# EAGLE library part 1273ПВ13Т (library adc)
АЕЯР.431320.874 ТУ 1273ПВ13Т - 8-разрядный АЦП, частотой преобразования 500Msps с LVDS-шиной. Производитель: "СКТБ ЭС", г. Воронеж. Технические условия: АЕЯР.431320.874 ТУ
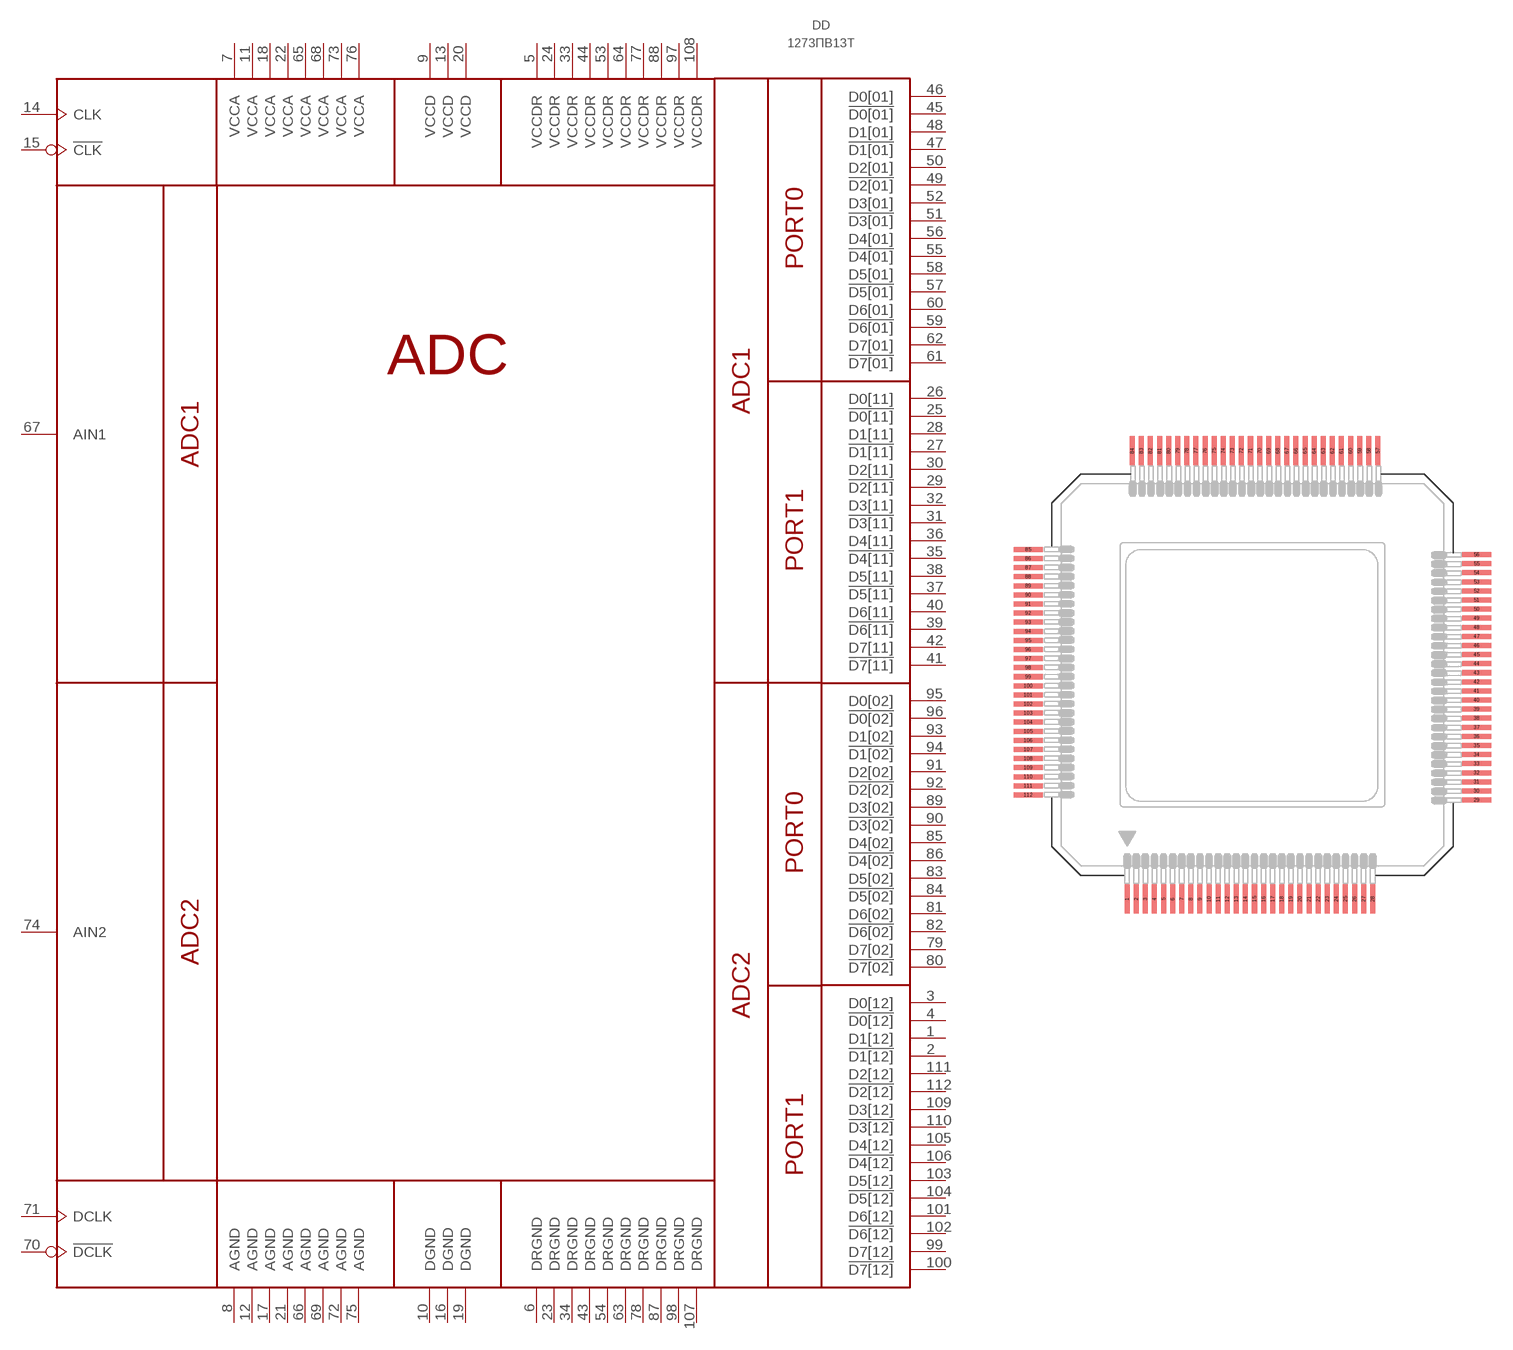
[diagram p0: symbol with the pads of 4233.112-А; footprint 4233.112-А]

Designator prefix DD

## 1273ПВ13Т  [4233.112-А]
1  D1[12]  out
2  !D1[12]  out
3  D0[12]  out
4  !D0[12]  out
5  VCCDR  pwr
6  DRGND  pwr
7  VCCA  pwr
8  AGND  pwr
9  VCCD  pwr
10  DGND  pwr
11  VCCA  pwr
12  AGND  pwr
13  VCCD  pwr
14  CLK  in
15  !CLK  in
16  DGND  pwr
17  AGND  pwr
18  VCCA  pwr
19  DGND  pwr
20  VCCD  pwr
21  AGND  pwr
22  VCCA  pwr
23  DRGND  pwr
24  VCCDR  pwr
25  !D0[11]  out
26  D0[11]  out
27  !D1[11]  out
28  D1[11]  out
29  !D2[11]  out
30  D2[11]  out
31  !D3[11]  out
32  D3[11]  out
33  VCCDR  pwr
34  DRGND  pwr
35  !D4[11]  out
36  D4[11]  out
37  !D5[11]  out
38  D5[11]  out
39  !D6[11]  out
40  D6[11]  out
41  !D7[11]  out
42  D7[11]  out
43  DRGND  pwr
44  VCCDR  pwr
45  !D0[01]  out
46  D0[01]  out
47  !D1[01]  out
48  D1[01]  out
49  !D2[01]  out
50  D2[01]  out
51  !D3[01]  out
52  D3[01]  out
53  VCCDR  pwr
54  DRGND  pwr
55  !D4[01]  out
56  D4[01]  out
57  !D5[01]  out
58  D5[01]  out
59  !D6[01]  out
60  D6[01]  out
61  !D7[01]  out
62  D7[01]  out
63  DRGND  pwr
64  VCCDR  pwr
65  VCCA  pwr
66  AGND  pwr
67  AIN1  in
68  VCCA  pwr
69  AGND  pwr
70  !DCLK  in
71  DCLK  in
72  AGND  pwr
73  VCCA  pwr
74  AIN2  in
75  AGND  pwr
76  VCCA  pwr
77  VCCDR  pwr
78  DRGND  pwr
79  D7[02]  out
80  !D7[02]  out
81  D6[02]  out
82  !D6[02]  out
83  D5[02]  out
84  !D5[02]  out
85  D4[02]  out
86  !D4[02]  out
87  DRGND  pwr
88  VCCDR  pwr
89  D3[02]  out
90  !D3[02]  out
91  D2[02]  out
92  !D2[02]  out
93  D1[02]  out
94  !D1[02]  out
95  D0[02]  out
96  !D0[02]  out
97  VCCDR  pwr
98  DRGND  pwr
99  D7[12]  out
100  !D7[12]  out
101  D6[12]  out
102  !D6[12]  out
103  D5[12]  out
104  !D5[12]  out
105  D4[12]  out
106  !D4[12]  out
107  DRGND  pwr
108  VCCDR  pwr
109  D3[12]  out
110  !D3[12]  out
111  D2[12]  out
112  !D2[12]  out

## Footprint 4233.112-А (pad centres in mm)
smd 0.35 x 2: 1 -8.75,-15.652; 2 -8.115,-15.652; 3 -7.48,-15.652; 4 -6.845,-15.652; 5 -6.21,-15.652; 6 -5.575,-15.652; 7 -4.94,-15.652; 8 -4.305,-15.652; 9 -3.67,-15.652; 10 -3.035,-15.652; 11 -2.4,-15.652; 12 -1.765,-15.652; 13 -1.13,-15.652; 14 -0.495,-15.652; 15 0.14,-15.652; 16 0.775,-15.652; 17 1.41,-15.652; 18 2.045,-15.652; 19 2.68,-15.652; 20 3.315,-15.652; 21 3.95,-15.652; 22 4.585,-15.652; 23 5.22,-15.652; 24 5.855,-15.652; 25 6.49,-15.652; 26 7.125,-15.652; 27 7.76,-15.652; 28 8.395,-15.652; 57 8.75,15.652; 58 8.115,15.652; 59 7.48,15.652; 60 6.845,15.652; 61 6.21,15.652; 62 5.575,15.652; 63 4.94,15.652; 64 4.305,15.652; 65 3.67,15.652; 66 3.035,15.652; 67 2.4,15.652; 68 1.765,15.652; 69 1.13,15.652; 70 0.495,15.652; 71 -0.14,15.652; 72 -0.775,15.652; 73 -1.41,15.652; 74 -2.045,15.652; 75 -2.68,15.652; 76 -3.315,15.652; 77 -3.95,15.652; 78 -4.585,15.652; 79 -5.22,15.652; 80 -5.855,15.652; 81 -6.49,15.652; 82 -7.125,15.652; 83 -7.76,15.652; 84 -8.395,15.652
smd 2 x 0.35: 29 15.652,-8.75; 30 15.652,-8.115; 31 15.652,-7.48; 32 15.652,-6.845; 33 15.652,-6.21; 34 15.652,-5.575; 35 15.652,-4.94; 36 15.652,-4.305; 37 15.652,-3.67; 38 15.652,-3.035; 39 15.652,-2.4; 40 15.652,-1.765; 41 15.652,-1.13; 42 15.652,-0.495; 43 15.652,0.14; 44 15.652,0.775; 45 15.652,1.41; 46 15.652,2.045; 47 15.652,2.68; 48 15.652,3.315; 49 15.652,3.95; 50 15.652,4.585; 51 15.652,5.22; 52 15.652,5.855; 53 15.652,6.49; 54 15.652,7.125; 55 15.652,7.76; 56 15.652,8.395; 85 -15.652,8.75; 86 -15.652,8.115; 87 -15.652,7.48; 88 -15.652,6.845; 89 -15.652,6.21; 90 -15.652,5.575; 91 -15.652,4.94; 92 -15.652,4.305; 93 -15.652,3.67; 94 -15.652,3.035; 95 -15.652,2.4; 96 -15.652,1.765; 97 -15.652,1.13; 98 -15.652,0.495; 99 -15.652,-0.14; 100 -15.652,-0.775; 101 -15.652,-1.41; 102 -15.652,-2.045; 103 -15.652,-2.68; 104 -15.652,-3.315; 105 -15.652,-3.95; 106 -15.652,-4.585; 107 -15.652,-5.22; 108 -15.652,-5.855; 109 -15.652,-6.49; 110 -15.652,-7.125; 111 -15.652,-7.76; 112 -15.652,-8.395